# EAGLE library part POLOLU_MOTOR_DRIVER (library ElcPartsLibrary)
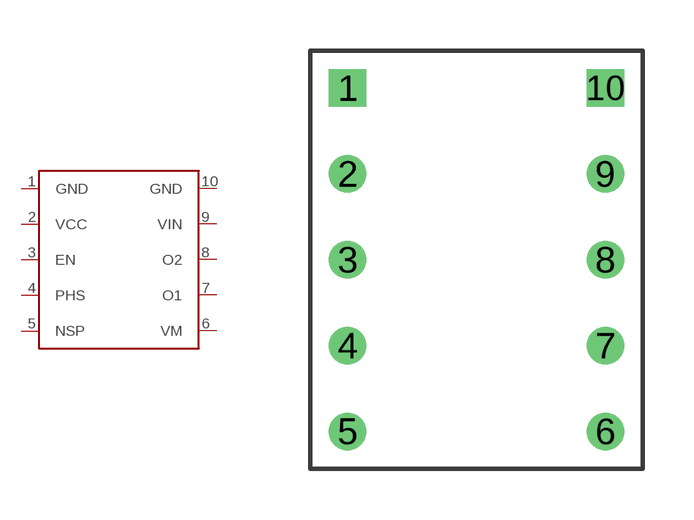
[diagram p2: symbol with the pads of POLOLU_MOTOR_DRIVER; footprint POLOLU_MOTOR_DRIVER]

Designator prefix -

## POLOLU_MOTOR_DRIVER  [POLOLU_MOTOR_DRIVER]
1  GND
2  VCC
3  EN
4  PHS
5  NSP
6  VM
7  O1
8  O2
9  VIN
10  GND

## Footprint POLOLU_MOTOR_DRIVER (pad centres in mm)
drill 0.6 square: 1 0,10.16; 10 7.62,10.16
drill 0.6: 2 0,7.62; 3 0,5.08; 4 0,2.54; 5 0,0; 6 7.62,0; 7 7.62,2.54; 8 7.62,5.08; 9 7.62,7.62